# Altium footprint library 5055750271.PcbLib: 2 footprints
Each footprint in its own frame and in the unit in brackets; x right, y up, seen from the top. Pads: shape width x height; smd on the part's side, far side on the other; paste and mask are expansions set on the pad; w line width, h text height; cw(c..) or ccw(c..) is an arc to the next point about the centre after c.
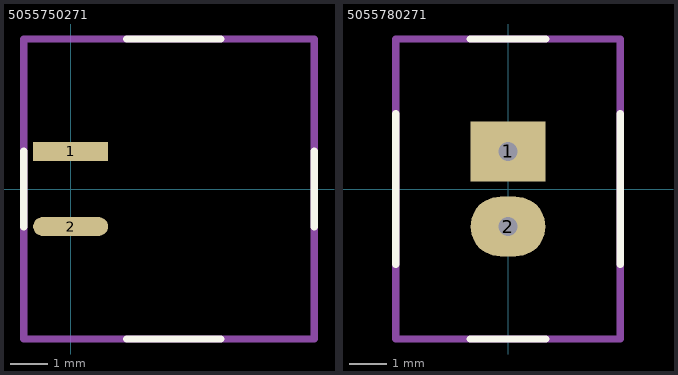
[diagram p0: the footprints below, top view; thin cyan lines are the x and y axes]

## 5055750271 [mm]
pads (2):
  rect 2x0.5 smd: 1(0,1)
  oval 2x0.5 smd: 2(0,-1)
Top Overlay:
  lines w0.2: -1.25,-1 -1.25,1 ; 1.5,-4 3.5,-4 4,-4 ; 1.5,4 4,4 ; 6.5,-1 6.5,1
Mechanical 13:
  lines w0.2: -1.25,-4 6.5,-4 6.5,4 -1.25,4 -1.25,-4

## 5055780271 [mm]
pads (2):
  rect 2x1.6 hole 0.5: 1(0,1)
  oval 2x1.6 hole 0.5: 2(0,-1)
Top Overlay:
  lines w0.2: -3,-2 -3,2 ; -1,-4 1,-4 ; -1,4 1,4 ; 3,-2 3,2
Mechanical 13:
  lines w0.2: -3,-4 -3,4 3,4 3,-4 -3,-4